# EAGLE library part LTC6820 (library IIT_BOMBAY_Racing)
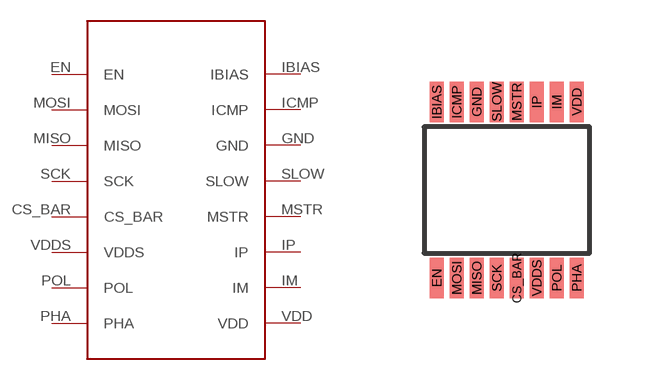
[diagram p16: symbol with the pads of 16-PINMSOP; footprint 16-PINMSOP]

Designator prefix -

## LTC6820  [16-PINMSOP]
CS_BAR  CS_BAR
EN  EN
GND  GND
IBIAS  IBIAS
ICMP  ICMP
IM  IM
IP  IP
MISO  MISO
MOSI  MOSI
MSTR  MSTR
PHA  PHA
POL  POL
SCK  SCK
SLOW  SLOW
VDD  VDD
VDDS  VDDS

## Footprint 16-PINMSOP (pad centres in mm)
smd 0.343 x 1.016: CS_BAR 0.12,-2.27; EN -1.879,-2.27; GND -0.879,2.13; IBIAS -1.879,2.13; ICMP -1.379,2.13; IM 1.121,2.13; IP 0.621,2.13; MISO -0.879,-2.27; MOSI -1.379,-2.27; MSTR 0.12,2.13; PHA 1.621,-2.27; POL 1.121,-2.27; SCK -0.38,-2.27; SLOW -0.38,2.13; VDD 1.621,2.13; VDDS 0.621,-2.27